# EAGLE library part VNC2-32 (library ftdichip-6)
Vinculum-II 2nd Generation Dual USB Host Controller
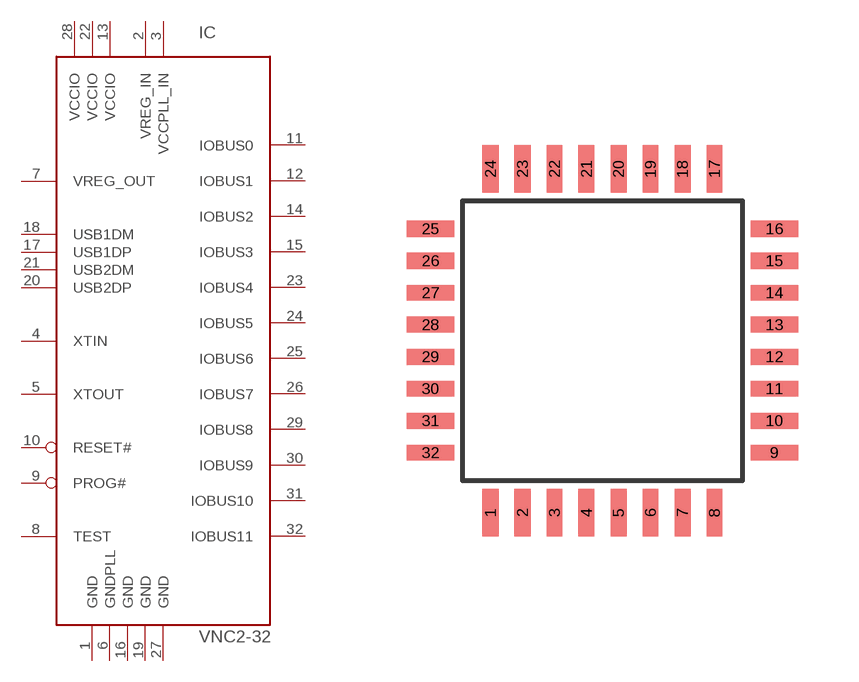
[diagram p9: symbol with the pads of LQFP32; footprint LQFP32]

Designator prefix IC

## VNC2-32L1B  [LQFP32]
1  GND  pwr
2  VREG_IN  pwr
3  VCCPLL_IN  pwr
4  XTIN  in
5  XTOUT  out
6  GNDPLL  pwr
7  VREG_OUT  out
8  TEST  in
9  PROG#  in
10  RESET#  in
11  IOBUS0
12  IOBUS1
13  VCCIO  pwr
14  IOBUS2
15  IOBUS3
16  GND  pwr
17  USB1DP
18  USB1DM
19  GND  pwr
20  USB2DP
21  USB2DM
22  VCCIO  pwr
23  IOBUS4
24  IOBUS5
25  IOBUS6
26  IOBUS7
27  GND  pwr
28  VCCIO  pwr
29  IOBUS8
30  IOBUS9
31  IOBUS10
32  IOBUS11

## Footprint LQFP32 (pad centres in mm)
LQFP-32 package 7x7 mm case, 0.8 mm lead pitch
smd 0.4 x 1.2: 1 -2.8,-4.3; 2 -2,-4.3; 3 -1.2,-4.3; 4 -0.4,-4.3; 5 0.4,-4.3; 6 1.2,-4.3; 7 2,-4.3; 8 2.8,-4.3; 17 2.8,4.3; 18 2,4.3; 19 1.2,4.3; 20 0.4,4.3; 21 -0.4,4.3; 22 -1.2,4.3; 23 -2,4.3; 24 -2.8,4.3
smd 1.2 x 0.4: 9 4.3,-2.8; 10 4.3,-2; 11 4.3,-1.2; 12 4.3,-0.4; 13 4.3,0.4; 14 4.3,1.2; 15 4.3,2; 16 4.3,2.8; 25 -4.3,2.8; 26 -4.3,2; 27 -4.3,1.2; 28 -4.3,0.4; 29 -4.3,-0.4; 30 -4.3,-1.2; 31 -4.3,-2; 32 -4.3,-2.8